# Altium integrated library TMU_3-1212.IntLib: 1 symbol
Pins are listed as number, name and electrical type; pins without a type are passive.

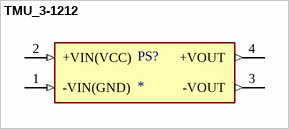
[diagram p0: symbol TMU_3-1212]

## TMU_3-1212
designator PS?
MP: TMU_3-1212; Price: None; Availability: Unavailable; Package: None; Value: *
footprint CONV_TMU_3-1212
pins: 1 -VIN(GND) (in), 2 +VIN(VCC) (in), 3 -VOUT (out), 4 +VOUT (out)